# EAGLE library part SN65ALS180DR (library NASA_LIB)
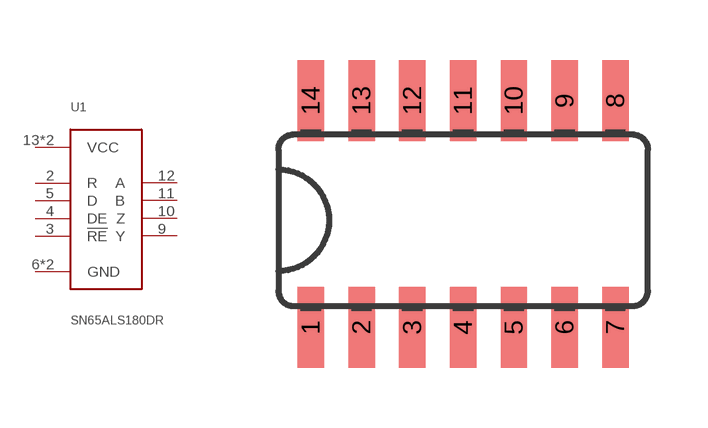
[diagram p34: symbol with the pads of SO14; footprint SO14]

Designator prefix U1

## SN65ALS180DR  [SO14]
2  R
3  !RE
4  DE
5  D
6  GND
7  GND
9  Y
10  Z
11  B
12  A
13  VCC
14  VCC

## Footprint SO14 (pad centres in mm)
smd 0.66 x 2.032: 1 -3.175,-2.68; 2 -1.905,-2.68; 3 -0.635,-2.68; 4 0.635,-2.68; 5 1.905,-2.68; 6 3.175,-2.68; 7 4.445,-2.68; 8 4.445,2.997; 9 3.175,2.997; 10 1.905,2.997; 11 0.635,2.997; 12 -0.635,2.997; 13 -1.905,2.997; 14 -3.175,2.997